# Altium footprint library microswitches.PcbLib: 31 footprints (part 2 of 2)
Each footprint in its own frame and in the unit in brackets; x right, y up, seen from the top. Pads: shape width x height; smd on the part's side, far side on the other; paste and mask are expansions set on the pad; w line width, h text height; cw(c..) or ccw(c..) is an arc to the next point about the centre after c.
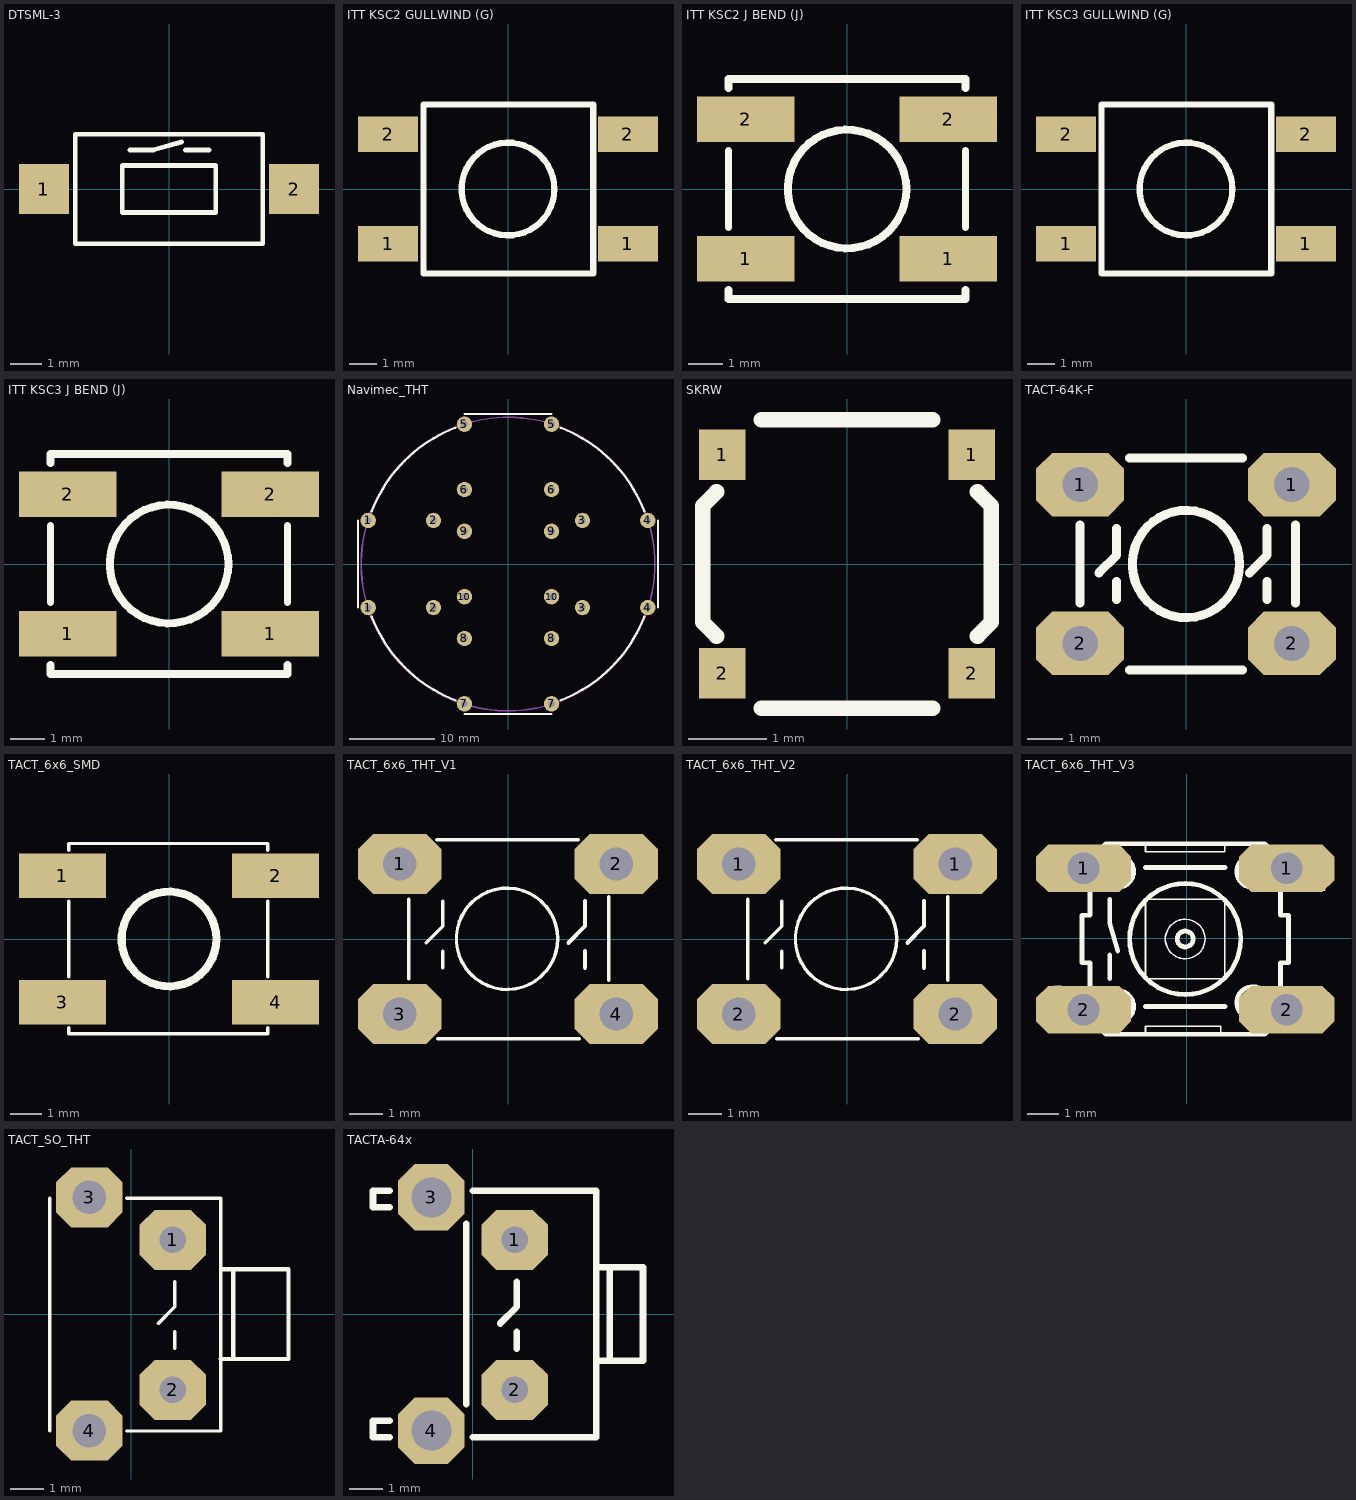
[diagram p1: the footprints below, top view; thin cyan lines are the x and y axes]

## DTSML-3 [mm]
height 5
pads (2):
  rect 1.6x1.6 smd: 1(-4,0) 2(4,0)
Top Overlay:
  lines w0.15: -1.25,1.25 -0.488,1.25 0.401,1.504 ; 0.528,1.25 1.29,1.25 ; -3,-1.75 -3,-1 -3,1.75 3,1.75 3,-1 3,-1.75 -3,-1.75 ; -1.5,-0.75 -1.5,0.75 1.5,0.75 1.5,-0.75 -1.5,-0.75

## ITT KSC2 GULLWIND (G) [mm] "KSC Series Sealed Tact Switch for SMT"
height 5
pads (4):
  rect 2.2x1.3 smd: 1(-4.4,-2) 1(4.4,-2) 2(-4.4,2) 2(4.4,2)
Top Overlay:
  circle w0.229: c0,0 r1.7
  lines w0.229: 3.1,3.1 -3.1,3.1 -3.1,-3.1 3.128,-3.1 3.128,3.097
3D body "KSC201GLFS.stp": height 3.5, standoff 0, extent -5,-3.15 5,3.15

## ITT KSC2 J BEND (J) [mm] "KSC Series Sealed Tact Switch for SMT"
height 5
pads (4):
  rect 2.8x1.3 smd: 1(-2.9,-2) 1(2.9,-2) 2(-2.9,2) 2(2.9,2)
Top Overlay:
  circle w0.229: c0,0 r1.7
  lines w0.2: -3.4,-1.1 -3.4,1.1 ; 3.4,-1.1 3.4,1.1 ; -3.4,-3.15 ccw(c-3.4,-3.15) -3.4,-3.15
  lines w0.229: -3.4,-2.9 -3.4,-3.15 3.4,-3.15 3.4,-2.9 ; -3.4,2.9 -3.4,3.15 3.4,3.15 3.4,2.9
3D body "KSC201JLFS.stp": height 3.5, standoff 0, extent -3.4,-3.15 3.4,3.15

## ITT KSC3 GULLWIND (G) [mm] "KSC Series Sealed Tact Switch for SMT"
height 5
pads (4):
  rect 2.2x1.3 smd: 1(-4.4,-2) 1(4.4,-2) 2(-4.4,2) 2(4.4,2)
Top Overlay:
  circle w0.229: c0,0 r1.7
  lines w0.229: 3.1,3.1 -3.1,3.1 -3.1,-3.1 3.128,-3.1 3.128,3.097
3D body "KSC341GLFS.stp": height 3.46, standoff 0, extent -5,-3.15 5,3.15

## ITT KSC3 J BEND (J) [mm] "KSC Series Sealed Tact Switch for SMT"
height 5
pads (4):
  rect 2.8x1.3 smd: 1(-2.9,-2) 1(2.9,-2) 2(-2.9,2) 2(2.9,2)
Top Overlay:
  circle w0.229: c0,0 r1.7
  lines w0.2: -3.4,-1.1 -3.4,1.1 ; 3.4,-1.1 3.4,1.1 ; -3.4,-3.15 ccw(c-3.4,-3.15) -3.4,-3.15
  lines w0.229: -3.4,-2.9 -3.4,-3.15 3.4,-3.15 3.4,-2.9 ; -3.4,2.9 -3.4,3.15 3.4,3.15 3.4,2.9
3D body "KSC341JLFS.stp": height 3.46, standoff 0, extent -3.4,-3.15 3.4,3.15

## KMR2 [mm] "C&K COMPONENTS KMR2 Switch"
3D body "User Library-Switch-CK-KMR2.STEP": height 2.1, standoff 0, extent -2.3,-1.525 2.3,1.475

## Navimec_THT [mm] "Navimec Module"
pads (20):
  round 1.8 hole 0.8: 1(-16.31,-5.08) 1(-16.31,5.08) 2(-8.69,-5.08) 2(-8.69,5.08) 3(8.69,-5.08) 3(8.69,5.08) 4(16.31,-5.08) 4(16.31,5.08) 5(-5.08,16.31) 5(5.08,16.31) 6(-5.08,8.69) 6(5.08,8.69) 7(-5.08,-16.31) 7(5.08,-16.31) 8(-5.08,-8.69) 8(5.08,-8.69) 9(-5.08,3.81) 9(5.08,3.81) 10(-5.08,-3.81) 10(5.08,-3.81)
Top Overlay:
  lines w0.2: -17.5,-5.1 -17.5,5.1 ; -5.1,-17.5 5.1,-17.5 ; -5.1,17.5 5.1,17.5 ; 17.5,-5.1 17.5,5.1
  lines w0.254: -15.903,-6.117 ccw(c0,0) -6.117,-15.903 ; -15.903,6.117 cw(c0,0) -6.117,15.903 ; 6.117,-15.903 ccw(c0,0) 15.903,-6.117 ; 6.117,15.903 cw(c0,0) 15.903,6.117
Mechanical 15:
  circle w0.2: c0,-0.011 r17.125
3D body "NAVIMEC-TH.stp": height 12.21, standoff -3.9, extent -17.5,-17.5 17.5,17.5

## SKRW [mm] "ALPS SKRW Series (AKA: C&K PTS540)"
pads (4):
  rect 0.6x0.65 smd: 1(-1.6,1.4) 1(1.6,1.4) 2(-1.6,-1.4) 2(1.6,-1.4)
Top Overlay:
  lines w0.2: -1.675,-0.925 -1.85,-0.75 -1.85,0.75 -1.675,0.925 ; -1.1,-1.85 1.1,-1.85 ; -1.1,1.85 1.1,1.85 ; 1.675,-0.925 1.85,-0.75 1.85,0.75 1.675,0.925
3D body "SKRWAE.STEP": height 0.35, standoff 0, extent -1.85,-1.85 1.85,1.85

## TACT-64K-F [mm]
pads (4):
  oct 2.5x1.8 hole 1: 1(-3,2.25) 1(3,2.25) 2(-3,-2.25) 2(3,-2.25)
Top Overlay:
  circle w0.254: c0,0 r1.521
  lines w0.254: -3,-1.1 -3,1.1 ; -2.467,-0.25 -1.967,0.25 -1.967,1 ; -1.967,-1 -1.967,-0.5 ; -1.6,-3 1.6,-3 ; -1.6,3 1.6,3 ; 1.8,-0.25 2.3,0.25 2.3,1 ; 2.3,-1 2.3,-0.5 ; 3.1,-1.1 3.1,1.1
3D body "User Library-TPxxxx (Switch).step": height 4.9, standoff -3.59, extent -4.005,-3.018 3.969,2.982

## TACT_6x6_SMD [mm]
pads (4):
  rect 2.75x1.4 smd: 1(-3.375,2) 2(3.375,2) 3(-3.375,-2) 4(3.375,-2)
Top Overlay:
  circle w0.254: c0,0 r1.5
  lines w0.102: -3.175,-2.8 -3.175,-3 3.125,-3 3.125,-2.8 ; -3.175,-1.2 -3.175,1.2 ; -3.175,2.8 -3.175,3.025 3.125,3.025 3.125,2.8 ; 3.125,-1.2 3.125,1.2
3D body "CircuitWorks-TACT SMD 6X6.step": height 5, standoff -0.05, extent -4.075,-3 4.075,3

## TACT_6x6_THT_V1 [mm]
pads (4):
  oct 2.5x1.8 hole 1: 1(-3.25,2.25) 2(3.25,2.25) 3(-3.25,-2.25) 4(3.25,-2.25)
Top Overlay:
  circle w0.102: c-0.029,0.007 r1.521
  lines w0.102: -2.972,-1.194 -2.972,1.194 ; -2.456,-0.114 -1.956,0.386 -1.956,1.136 ; -2.134,2.972 2.108,2.972 ; -2.108,-2.997 2.134,-2.997 ; -1.956,-0.864 -1.956,-0.364 ; 3.023,-1.245 3.023,1.27
  lines w0.127: 1.811,-0.114 2.311,0.386 2.311,1.136 ; 2.311,-0.864 2.311,-0.364
3D body "SW3dPS-cb001a.STEP": height 3.1, standoff -4.35, extent -3.302,-3 3.302,3

## TACT_6x6_THT_V2 [mm]
pads (4):
  oct 2.5x1.8 hole 1: 1(-3.25,2.25) 1(3.25,2.25) 2(-3.25,-2.25) 2(3.25,-2.25)
Top Overlay:
  circle w0.102: c-0.029,0.007 r1.521
  lines w0.102: -2.972,-1.194 -2.972,1.194 ; -2.456,-0.114 -1.956,0.386 -1.956,1.136 ; -2.134,2.972 2.108,2.972 ; -2.108,-2.997 2.134,-2.997 ; -1.956,-0.864 -1.956,-0.364 ; 3.023,-1.245 3.023,1.27
  lines w0.127: 1.811,-0.114 2.311,0.386 2.311,1.136 ; 2.311,-0.864 2.311,-0.364
3D body "SW3dPS-cb001a.STEP": height 3.1, standoff -4.35, extent -3.302,-3 3.302,3

## TACT_6x6_THT_V3 [mil]
height 196.85
pads (4):
  oct 120x60 hole 40: 1(-130,88) 1(126,88) 2(-130,-90) 2(126,-90)
Top Overlay:
  circle w6: c-2,-1 r70
  circle w6: c-87,-86 r20
  circle w6: c83,-81 r20
  circle w6: c83,84 r20
  circle w6: c-87,84 r20
  circle w2: c-2,-1 r25
  circle w6: c-2,-1 r10
  lines w2: -52,-121 -52,-111 43,-111 43,-121 ; -52,119 -52,109 48,109 48,119 ; -52,-51 -52,49 48,49 48,-51 -52,-51
  lines w6: -97,-51 -97,-21 ; -97,49 -97,19 -87,-16 ; -52,-86 48,-86 ; -52,89 48,89 ; -132,-31 -132,29 -122,29 -122,39 -122,99 -102,119 -87,119 -52,119 48,119 83,119 98,119 118,99 118,39 118,29 128,29 128,-31 118,-31 118,-41 118,-101 98,-121 83,-121 43,-121 -52,-121 -87,-121 -102,-121 -122,-101 -122,-41 -122,-31 -132,-31
  text "1" at -172,64 h50
  text "2" at 138,59 h50
  text "3" at -182,-111 h50
  text "4" at 138,-111 h50

## TACT_SO_THT [mm]
height 7
pads (4):
  oct 2x1.8 hole 0.8: 1(1.25,2.225) 2(1.25,-2.275)
  oct 2x1.8 hole 1: 3(-1.25,3.5) 4(-1.25,-3.5)
Top Overlay:
  lines w0.102: -2.444,-3.51 -2.444,3.475 ; -0.134,-3.51 2.687,-3.51 2.687,3.475 -0.134,3.475 ; 0.814,-0.286 1.314,0.214 1.314,0.964 ; 1.314,-1.036 1.314,-0.536
  lines w0.127: 2.687,-1.351 3.068,-1.351 ; 2.712,1.341 3.068,1.341 ; 3.068,-1.351 4.719,-1.351 4.719,1.341 3.068,1.341 ; 3.068,-1.351 3.068,1.341
3D body "SW3dPS-Alps TACT SKHH Horizontal Switch.STEP": height 7.37, standoff -3.5, extent -2.888,-4.209 5.082,4.154

## TACTA-64x [mm] "Side operated (angled) SPST-NO Microswitch"
height 7
pads (4):
  oct 2x1.8 hole 0.8: 1(1.25,2.225) 2(1.25,-2.275)
  oct 2x2 hole 1.2: 3(-1.25,3.5) 4(-1.25,-3.5)
Top Overlay:
  lines w0.2: -2.5,-3.7 -3,-3.7 -3,-3.2 -2.5,-3.2 ; -2.5,3.2 -3,3.2 -3,3.7 -2.5,3.7 ; -0.2,-2.7 -0.2,2.7 ; 0,-3.7 3.7,-3.7 3.7,1.2 3.7,3.7 0,3.7 ; 0.814,-0.286 1.314,0.214 1.314,0.964 ; 1.314,-1.036 1.314,-0.536 ; 3.7,-1.4 5.1,-1.4 5.1,1.4 3.7,1.4 ; 4.1,-1.4 4.1,1.4
3D body "SW3dPS-Alps TACT SKHH Horizontal Switch.STEP": height 7.37, standoff -3.5, extent -2.888,-4.209 5.082,4.154